# Altium schematic symbol library IC_LPCXpresso_LPC1769.SchLib: 1 symbol
Pins are listed as number, name and electrical type; pins without a type are passive.

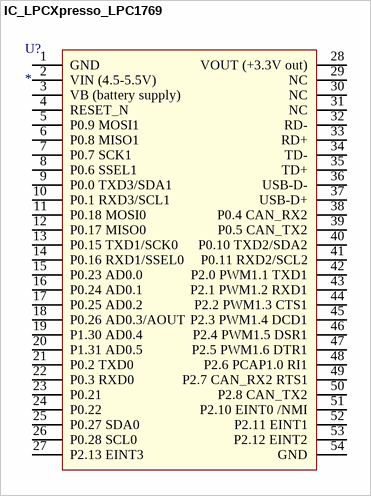
[diagram p0: symbol IC_LPCXpresso_LPC1769]

## IC_LPCXpresso_LPC1769
designator U?
pins: 1 GND, 2 VIN (4.5-5.5V), 3 VB (battery supply), 4 RESET_N, 5 P0.9 MOSI1, 6 P0.8 MISO1, 7 P0.7 SCK1, 8 P0.6 SSEL1, 9 P0.0 TXD3/SDA1, 10 P0.1 RXD3/SCL1, 11 P0.18 MOSI0, 12 P0.17 MISO0, 13 P0.15 TXD1/SCK0, 14 P0.16 RXD1/SSEL0, 15 P0.23 AD0.0, 16 P0.24 AD0.1, 17 P0.25 AD0.2, 18 P0.26 AD0.3/AOUT, 19 P1.30 AD0.4, 20 P1.31 AD0.5, 21 P0.2 TXD0, 22 P0.3 RXD0, 23 P0.21, 24 P0.22, 25 P0.27 SDA0, 26 P0.28 SCL0, 27 P2.13 EINT3, 28 VOUT (+3.3V out), 29 NC, 30 NC, 31 NC, 32 RD-, 33 RD+, 34 TD-, 35 TD+, 36 USB-D-, 37 USB-D+, 38 P0.4 CAN_RX2, 39 P0.5 CAN_TX2, 40 P0.10 TXD2/SDA2, 41 P0.11 RXD2/SCL2, 42 P2.0 PWM1.1 TXD1, 43 P2.1 PWM1.2 RXD1, 44 P2.2 PWM1.3 CTS1, 45 P2.3 PWM1.4 DCD1, 46 P2.4 PWM1.5 DSR1, 47 P2.5 PWM1.6 DTR1, 48 P2.6 PCAP1.0 RI1, 49 P2.7 CAN_RX2 RTS1, 50 P2.8 CAN_TX2, 51 P2.10 EINT0 /NMI, 52 P2.11 EINT1, 53 P2.12 EINT2, 54 GND